# Altium footprint library OPTOCOUPLER_H11F3SR2M.PcbLib: 1 footprints
Each footprint in its own frame and in the unit in brackets; x right, y up, seen from the top. Pads: shape width x height; smd on the part's side, far side on the other; paste and mask are expansions set on the pad; w line width, h text height; cw(c..) or ccw(c..) is an arc to the next point about the centre after c.
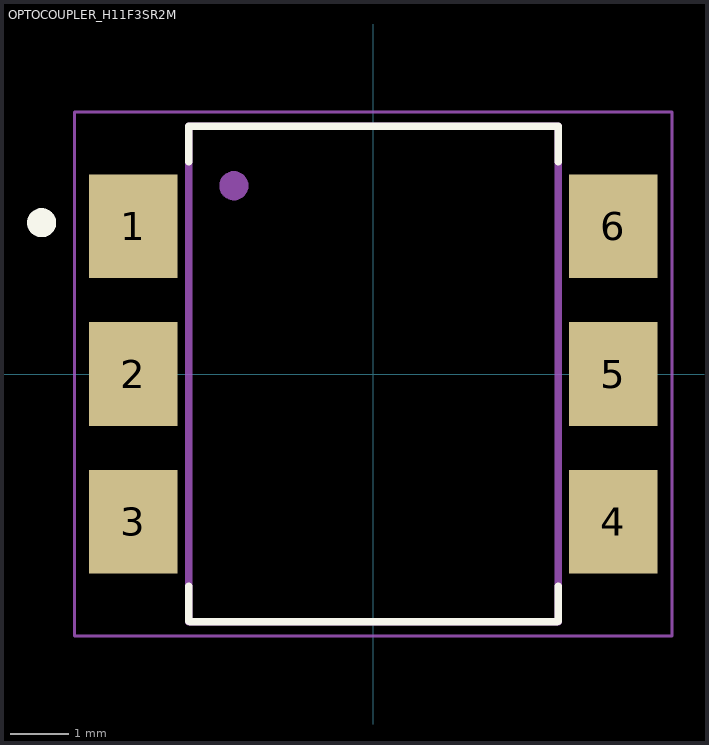
[diagram p0: the footprint, top view; thin cyan lines are the x and y axes]

## OPTOCOUPLER_H11F3SR2M [mm]
pads (6):
  rect 1.52x1.78 smd: 1(-4.125,2.54) 2(-4.125,0) 3(-4.125,-2.54) 4(4.125,-2.54) 5(4.125,0) 6(4.125,2.54)
Top Overlay:
  circle w0.3: c-5.7,2.6 r0.1
  lines w0.127: -3.175,-4.25 -3.175,-3.65 ; -3.175,3.65 -3.175,4.255 3.175,4.255 3.175,3.65 ; -3.15,-4.255 3.15,-4.255 ; 3.175,-4.25 3.175,-3.65
Mechanical 13:
  circle w0.3: c-2.398,3.235 r0.1
  lines w0.127: -3.175,-4.255 -3.175,4.255 3.175,4.255 3.175,-4.255 -3.175,-4.255
Mechanical 15:
  lines w0.05: -5.135,-4.505 -5.135,4.505 5.135,4.505 5.135,-4.505 -5.135,-4.505
3D body "step_temp.STEP": height 1.89, standoff -3.19, extent -4.255,-4.583 4.255,4.583